# EAGLE library part 687110144821 (library Wuerth_Elektronik_eiCan_03_ZIF_Connectors_Flat_Flexible_Cable)
WR-FPC 0.5mm SMT ZIF Horizontal Bottom Contact Low Profil 1.2mm Height, 10 Pins
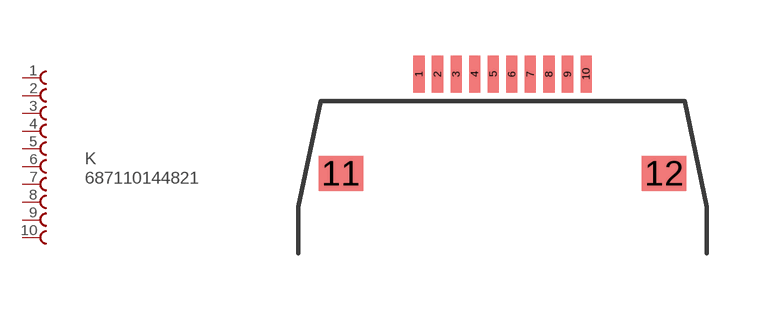
[diagram p4: symbol with the pads of 687110144821; footprint 687110144821]

Designator prefix K

## 687110144821  [687110144821]
1  1  pas
2  2  pas
3  3  pas
4  4  pas
5  5  pas
6  6  pas
7  7  pas
8  8  pas
9  9  pas
10  10  pas

## Footprint 687110144821 (pad centres in mm)
WR-FPC 0.5mm SMT ZIF Horizontal Bottom Contact Low Profil 1.2mm Height, 10 Pins
smd 0.3 x 1: 1 -2.25,4.825; 2 -1.75,4.825; 3 -1.25,4.825; 4 -0.75,4.825; 5 -0.25,4.825; 6 0.25,4.825; 7 0.75,4.825; 8 1.25,4.825; 9 1.75,4.825; 10 2.25,4.825
smd 1.2 x 0.95: 11 -4.35,2.15; 12 4.35,2.15